# Altium footprint library Fujitsu.PcbLib: 1 footprints
Each footprint in its own frame and in the unit in brackets; x right, y up, seen from the top. Pads: shape width x height; smd on the part's side, far side on the other; paste and mask are expansions set on the pad; w line width, h text height; cw(c..) or ccw(c..) is an arc to the next point about the centre after c.
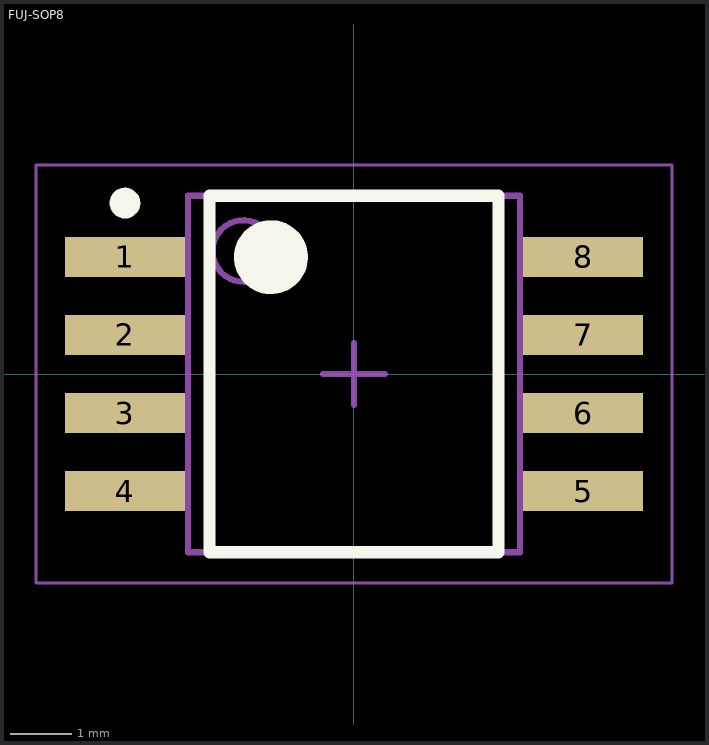
[diagram p0: the footprint, top view; thin cyan lines are the x and y axes]

## FUJ-SOP8 [mm] "SOP, 8-Leads, Body 5.65x5.30mm, Pitch 1.27mm, IPC Low Density"
height 1.73
pads (8):
  rect 1.95x0.65 smd: 1(-3.725,1.905) 2(-3.725,0.635) 3(-3.725,-0.635) 4(-3.725,-1.905) 5(3.725,-1.905) 6(3.725,-0.635) 7(3.725,0.635) 8(3.725,1.905)
Top Overlay:
  circle w0.6: c-1.35,1.9 r0.3
  circle w0.25: c-3.725,2.78 r0.125
  lines w0.2: -2.35,-2.9 2.35,-2.9 2.35,2.9 -2.35,2.9 -2.35,-2.9
Mechanical 13:
  circle w0.1: c-1.8,2 r0.5
  lines w0.1: -2.7,-2.9 2.7,-2.9 2.7,2.9 -2.7,2.9 -2.7,-2.9
Mechanical 15:
  lines w0.05: -5.175,-3.4 5.175,-3.4 5.175,3.4 -5.175,3.4 -5.175,-3.4
  lines w0.1: -0.5,0 0.5,0 ; 0,-0.5 0,0.5
3D body "FUJ-SOP8.step": height 1.73, standoff 0, extent -4.05,-2.9 4.05,2.9